# EAGLE library part ESP8266-12F (library KnowledgeCentric)
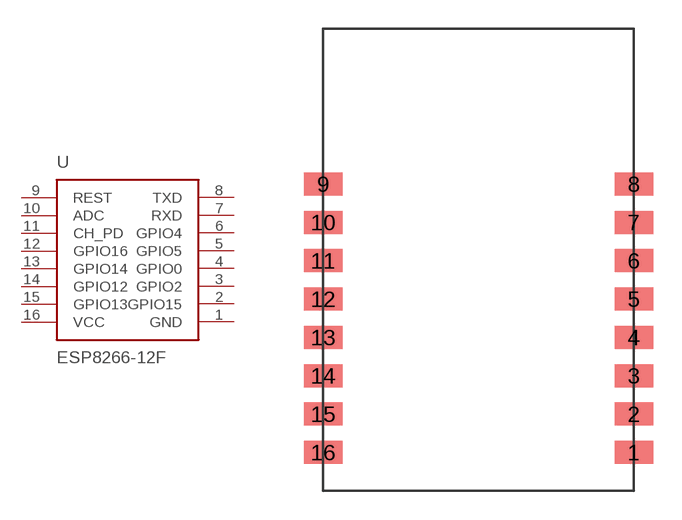
[diagram p2: symbol with the pads of ESP-12; footprint ESP-12]

Designator prefix U

## ESP8266-12F  [ESP-12]
1  GND
2  GPIO15
3  GPIO2
4  GPIO0
5  GPIO5
6  GPIO4
7  RXD
8  TXD
9  REST
10  ADC
11  CH_PD
12  GPIO16
13  GPIO14
14  GPIO12
15  GPIO13
16  VCC

## Footprint ESP-12 (pad centres in mm)
smd 2 x 1.2: 1 8.58,-9.43; 2 8.58,-7.43; 3 8.58,-5.43; 4 8.58,-3.43; 5 8.58,-1.43; 6 8.58,0.57; 7 8.58,2.57; 8 8.58,4.57; 9 -7.62,4.57; 10 -7.62,2.57; 11 -7.62,0.57; 12 -7.62,-1.43; 13 -7.62,-3.43; 14 -7.62,-5.43; 15 -7.62,-7.43; 16 -7.62,-9.43